# Altium schematic symbol library SparkFun-Capacitors.SCHLIB: 165 symbols (part 2 of 2)
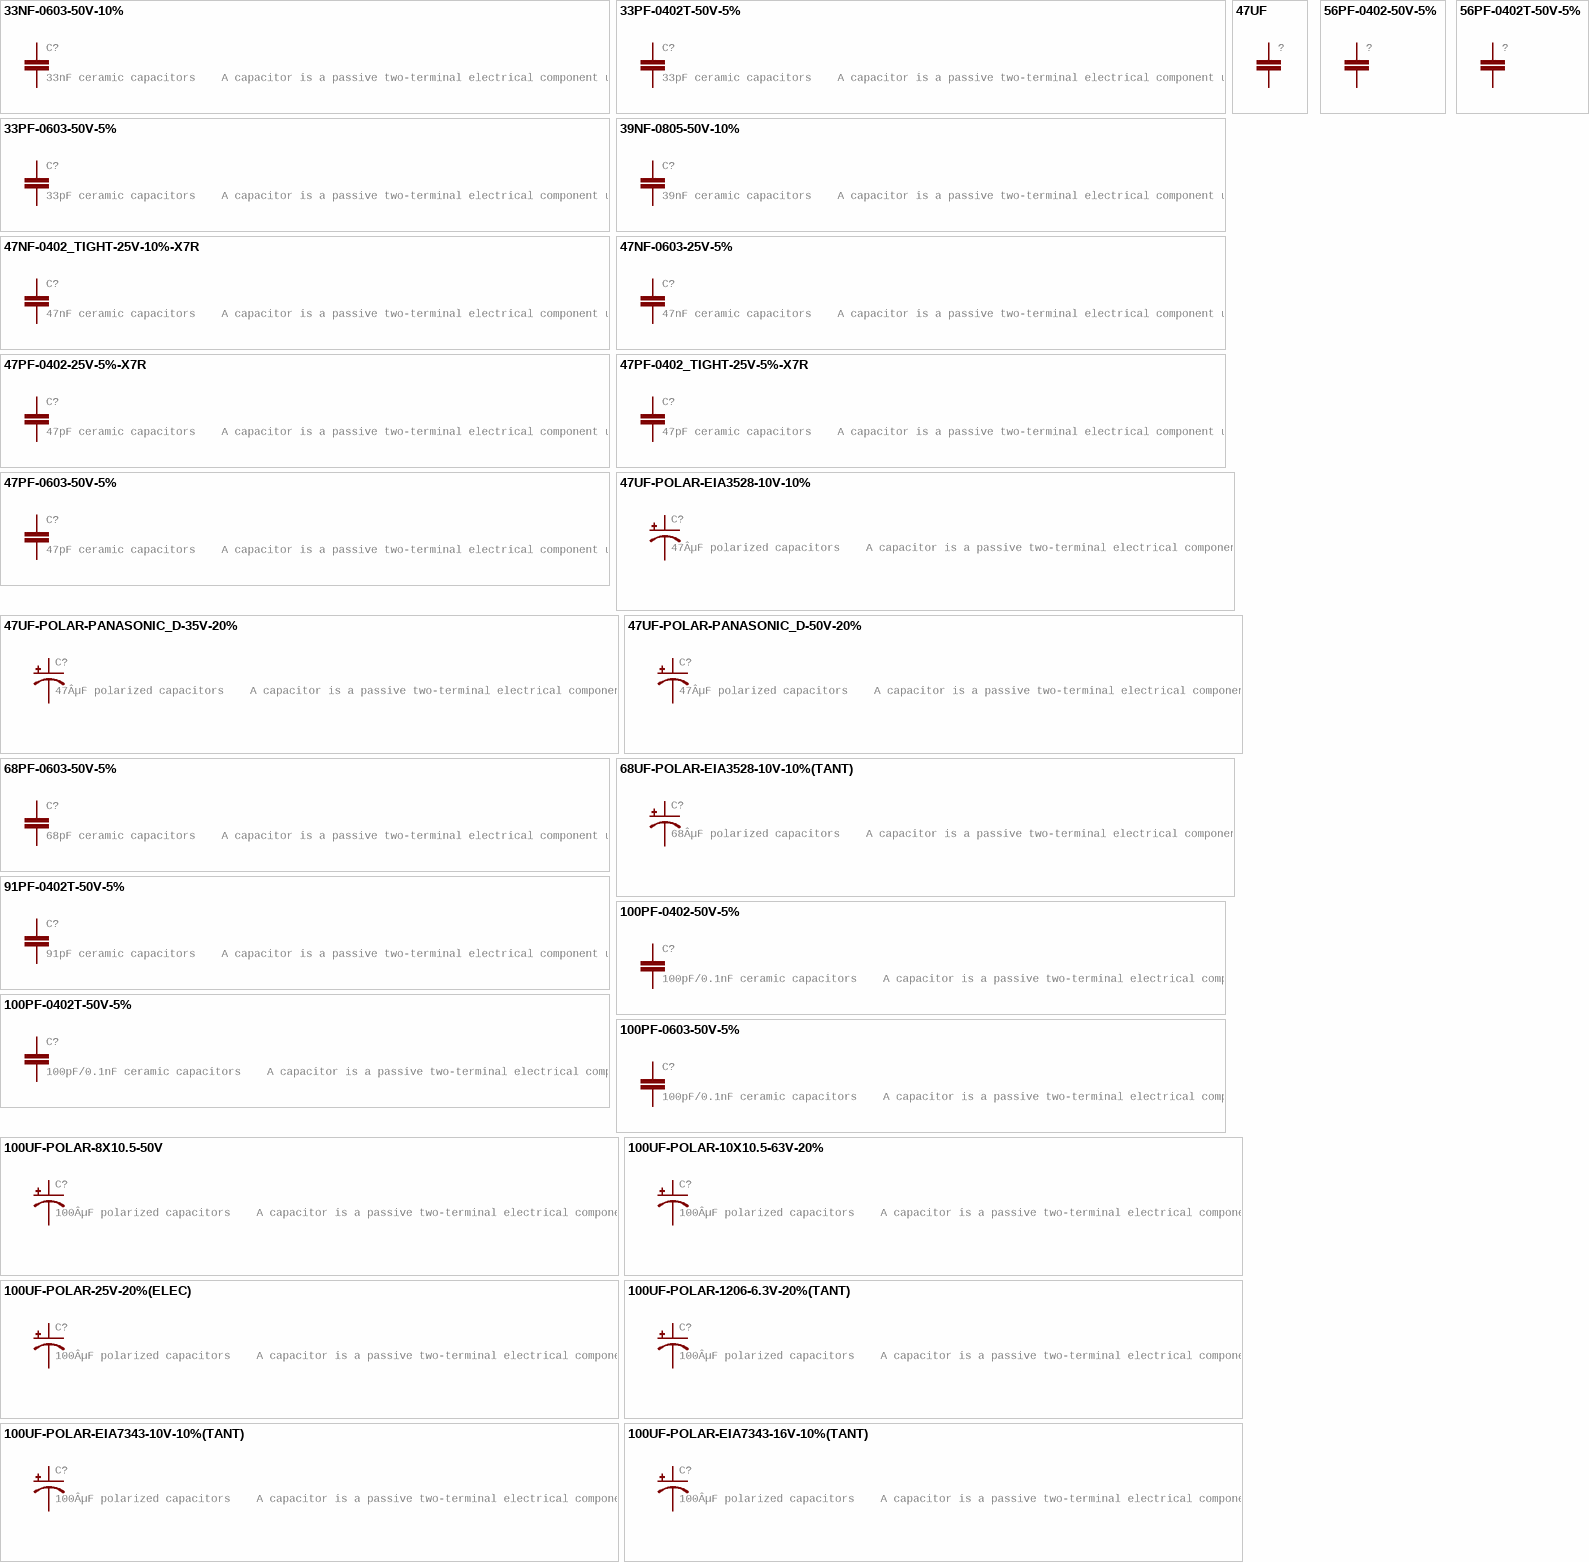
[diagram p6: symbols 33NF-0603-50V-10% to 100UF-POLAR-EIA7343-16V-10%(TANT)]

## 100UF-POLAR-10X10.5-63V-20%
designator C?, comment 100ÂµF polarized capacitors    A capacitor is a passive two-terminal electrical component used to store electrical energy temporarily in an electric field.
GateName_1: G$1; SymbolName_1: CAP_POL; DeviceName: -10X10.5-63V-20%; DeviceSetName: 100UF-POLAR; PROD_ID: CAP-08362; LibraryName: SparkFun-Capacitors; Package: NIC_10X10.5_CAP
footprint NIC_10X10.5_CAP
pins: +, -

## 100UF-POLAR-25V-20%(ELEC)
designator C?, comment 100ÂµF polarized capacitors    A capacitor is a passive two-terminal electrical component used to store electrical energy temporarily in an electric field.
GateName_1: G$1; SymbolName_1: CAP_POL; DeviceName: -25V-20%(ELEC); DeviceSetName: 100UF-POLAR; PROD_ID: CAP-12547; LibraryName: SparkFun-Capacitors; Package: PANASONIC_D
footprint PANASONIC_D
pins: +, -

## 100UF-POLAR-1206-6.3V-20%(TANT)
designator C?, comment 100ÂµF polarized capacitors    A capacitor is a passive two-terminal electrical component used to store electrical energy temporarily in an electric field.
GateName_1: G$1; SymbolName_1: CAP_POL; DeviceName: -1206-6.3V-20%(TANT); DeviceSetName: 100UF-POLAR; PROD_ID: CAP-14093; LibraryName: SparkFun-Capacitors; Package: 1206-POLAR
footprint 1206-POLAR
pins: 1 +, 2 -

## 100UF-POLAR-EIA7343-10V-10%(TANT)
designator C?, comment 100ÂµF polarized capacitors    A capacitor is a passive two-terminal electrical component used to store electrical energy temporarily in an electric field.
GateName_1: G$1; SymbolName_1: CAP_POL; DeviceName: -EIA7343-10V-10%(TANT); DeviceSetName: 100UF-POLAR; PROD_ID: CAP-07890; LibraryName: SparkFun-Capacitors; Package: EIA7343
footprint EIA7343
pins: A +, C -

## 100UF-POLAR-EIA7343-16V-10%(TANT)
designator C?, comment 100ÂµF polarized capacitors    A capacitor is a passive two-terminal electrical component used to store electrical energy temporarily in an electric field.
GateName_1: G$1; SymbolName_1: CAP_POL; DeviceName: -EIA7343-16V-10%(TANT); DeviceSetName: 100UF-POLAR; PROD_ID: CAP-08702; LibraryName: SparkFun-Capacitors; Package: EIA7343
footprint EIA7343
pins: A +, C -

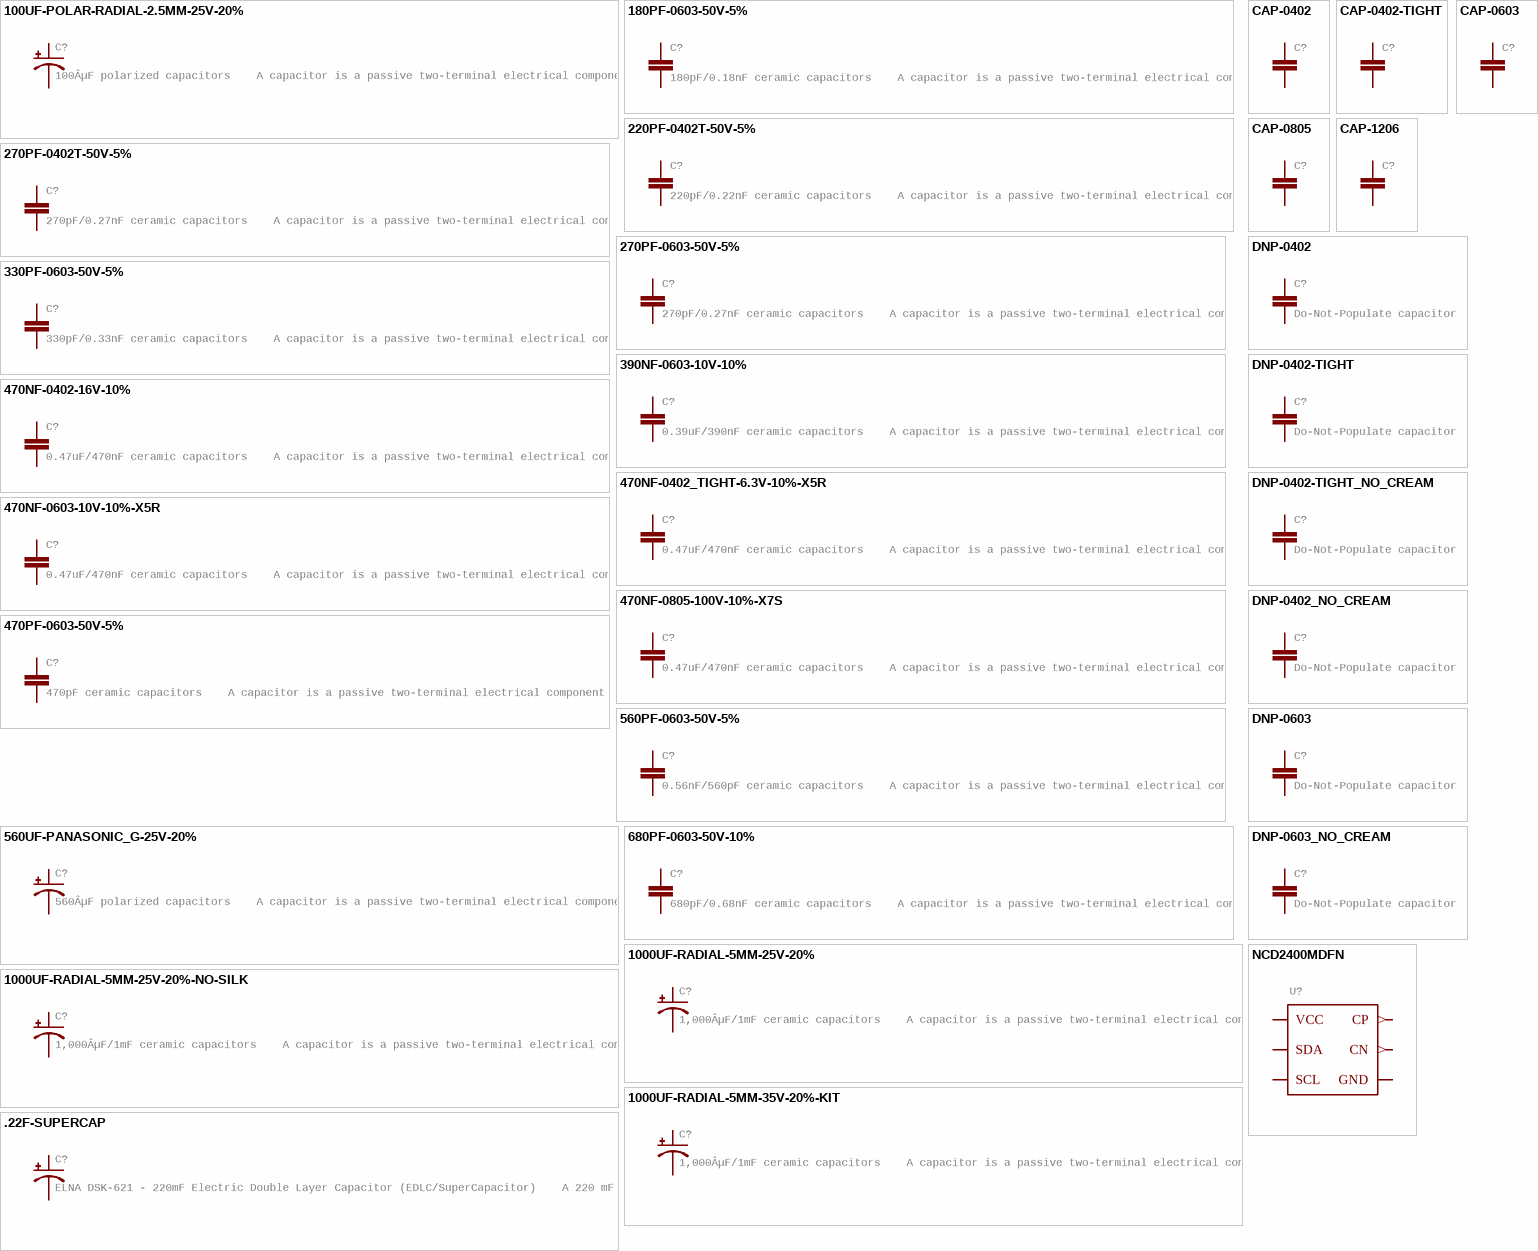
[diagram p5: symbols 100UF-POLAR-RADIAL-2.5MM-25V-20% to NCD2400MDFN]

## 100UF-POLAR-RADIAL-2.5MM-25V-20%
designator C?, comment 100ÂµF polarized capacitors    A capacitor is a passive two-terminal electrical component used to store electrical energy temporarily in an electric field.
GateName_1: G$1; SymbolName_1: CAP_POL; DeviceName: -RADIAL-2.5MM-25V-20%; DeviceSetName: 100UF-POLAR; PROD_ID: CAP-08439; LibraryName: SparkFun-Capacitors; Package: CPOL-RADIAL-2.5MM-6.5MM
footprint CPOL-RADIAL-2.5MM-6.5MM
pins: 1 +, 2 -

## 180PF-0603-50V-5%
designator C?, comment 180pF/0.18nF ceramic capacitors    A capacitor is a passive two-terminal electrical component used to store electrical energy temporarily in an electric field.
GateName_1: G$1; SymbolName_1: CAP; DeviceName: -0603-50V-5%; DeviceSetName: 180PF; PROD_ID: CAP-11661; LibraryName: SparkFun-Capacitors; Package: 0603
footprint 0603
pins: 1, 2

## 220PF-0402T-50V-5%
designator C?, comment 220pF/0.22nF ceramic capacitors    A capacitor is a passive two-terminal electrical component used to store electrical energy temporarily in an electric field.
GateName_1: G$1; SymbolName_1: CAP; DeviceName: -0402T-50V-5%; DeviceSetName: 220PF; PROD_ID: CAP-15725; LibraryName: SparkFun-Capacitors; Package: 0402-TIGHT
footprint 0402-TIGHT
pins: 1, 2

## 270PF-0402T-50V-5%
designator C?, comment 270pF/0.27nF ceramic capacitors    A capacitor is a passive two-terminal electrical component used to store electrical energy temporarily in an electric field.
GateName_1: G$1; SymbolName_1: CAP; DeviceName: -0402T-50V-5%; DeviceSetName: 270PF; PROD_ID: CAP-15129; LibraryName: SparkFun-Capacitors; Package: 0402-TIGHT
footprint 0402-TIGHT
pins: 1, 2

## 270PF-0603-50V-5%
designator C?, comment 270pF/0.27nF ceramic capacitors    A capacitor is a passive two-terminal electrical component used to store electrical energy temporarily in an electric field.
GateName_1: G$1; SymbolName_1: CAP; DeviceName: -0603-50V-5%; DeviceSetName: 270PF; PROD_ID: CAP-13339; LibraryName: SparkFun-Capacitors; Package: 0603
footprint 0603
pins: 1, 2

## 330PF-0603-50V-5%
designator C?, comment 330pF/0.33nF ceramic capacitors    A capacitor is a passive two-terminal electrical component used to store electrical energy temporarily in an electric field.
GateName_1: G$1; SymbolName_1: CAP; DeviceName: -0603-50V-5%; DeviceSetName: 330PF; PROD_ID: CAP-10108; LibraryName: SparkFun-Capacitors; Package: 0603
footprint 0603
pins: 1, 2

## 390NF-0603-10V-10%
designator C?, comment 0.39uF/390nF ceramic capacitors    A capacitor is a passive two-terminal electrical component used to store electrical energy temporarily in an electric field.
GateName_1: G$1; SymbolName_1: CAP; DeviceName: -0603-10V-10%; DeviceSetName: 390NF; PROD_ID: CAP-10986; LibraryName: SparkFun-Capacitors; Package: 0603
footprint 0603
pins: 1, 2

## 470NF-0402-16V-10%
designator C?, comment 0.47uF/470nF ceramic capacitors    A capacitor is a passive two-terminal electrical component used to store electrical energy temporarily in an electric field.
GateName_1: G$1; SymbolName_1: CAP; DeviceName: -0402-16V-10%; DeviceSetName: 470NF; PROD_ID: CAP-09041; LibraryName: SparkFun-Capacitors; Package: 0402
footprint 0402
pins: 1, 2

## 470NF-0402_TIGHT-6.3V-10%-X5R
designator C?, comment 0.47uF/470nF ceramic capacitors    A capacitor is a passive two-terminal electrical component used to store electrical energy temporarily in an electric field.
GateName_1: G$1; SymbolName_1: CAP; DeviceName: -0402_TIGHT-6.3V-10%-X5R; DeviceSetName: 470NF; PROD_ID: CAP-14242; LibraryName: SparkFun-Capacitors; Package: 0402-TIGHT
footprint 0402-TIGHT
pins: 1, 2

## 470NF-0603-10V-10%-X5R
designator C?, comment 0.47uF/470nF ceramic capacitors    A capacitor is a passive two-terminal electrical component used to store electrical energy temporarily in an electric field.
GateName_1: G$1; SymbolName_1: CAP; DeviceName: -0603-10V-10%-X5R; DeviceSetName: 470NF; PROD_ID: CAP-13216; LibraryName: SparkFun-Capacitors; Package: 0603
footprint 0603
pins: 1, 2

## 470NF-0805-100V-10%-X7S
designator C?, comment 0.47uF/470nF ceramic capacitors    A capacitor is a passive two-terminal electrical component used to store electrical energy temporarily in an electric field.
GateName_1: G$1; SymbolName_1: CAP; DeviceName: -0805-100V-10%-X7S; DeviceSetName: 470NF; PROD_ID: CAP-16570; LibraryName: SparkFun-Capacitors; Package: 0805
footprint 0805
pins: 1, 2

## 470PF-0603-50V-5%
designator C?, comment 470pF ceramic capacitors    A capacitor is a passive two-terminal electrical component used to store electrical energy temporarily in an electric field.
GateName_1: G$1; SymbolName_1: CAP; DeviceName: -0603-50V-5%; PROD_ID: CAP-07884; LibraryName: SparkFun-Capacitors; DeviceSetName: 470PF; Package: 0603
footprint 0603
pins: 1, 2

## 560PF-0603-50V-5%
designator C?, comment 0.56nF/560pF ceramic capacitors    A capacitor is a passive two-terminal electrical component used to store electrical energy temporarily in an electric field.
GateName_1: G$1; SymbolName_1: CAP; DeviceName: -0603-50V-5%; DeviceSetName: 560PF; PROD_ID: CAP-08749; LibraryName: SparkFun-Capacitors; Package: 0603
footprint 0603
pins: 1, 2

## 560UF-PANASONIC_G-25V-20%
designator C?, comment 560ÂµF polarized capacitors    A capacitor is a passive two-terminal electrical component used to store electrical energy temporarily in an electric field.
GateName_1: G$1; SymbolName_1: CAP_POL; DeviceName: -PANASONIC_G-25V-20%; DeviceSetName: 560UF; PROD_ID: CAP-09983; LibraryName: SparkFun-Capacitors; Package: PANASONIC_G
footprint PANASONIC_G
pins: +, -

## 680PF-0603-50V-10%
designator C?, comment 680pF/0.68nF ceramic capacitors    A capacitor is a passive two-terminal electrical component used to store electrical energy temporarily in an electric field.
GateName_1: G$1; SymbolName_1: CAP; DeviceName: -0603-50V-10%; DeviceSetName: 680PF; PROD_ID: CAP-09232; LibraryName: SparkFun-Capacitors; Package: 0603
footprint 0603
pins: 1, 2

## 1000UF-RADIAL-5MM-25V-20%
designator C?, comment 1,000ÂµF/1mF ceramic capacitors    A capacitor is a passive two-terminal electrical component used to store electrical energy temporarily in an electric field.CAP-08070
GateName_1: G$1; SymbolName_1: CAP_POL; DeviceName: -RADIAL-5MM-25V-20%; DeviceSetName: 1000UF; PROD_ID: CAP-09538; LibraryName: SparkFun-Capacitors; Package: CPOL-RADIAL-5MM-10MM
footprint CPOL-RADIAL-5MM-10MM
pins: +, -

## 1000UF-RADIAL-5MM-25V-20%-NO-SILK
designator C?, comment 1,000ÂµF/1mF ceramic capacitors    A capacitor is a passive two-terminal electrical component used to store electrical energy temporarily in an electric field.CAP-08070
GateName_1: G$1; SymbolName_1: CAP_POL; DeviceName: -RADIAL-5MM-25V-20%-NO-SILK; DeviceSetName: 1000UF; LibraryName: SparkFun-Capacitors; Package: CPOL-RADIAL-5MM-10MM-NS
footprint CPOL-RADIAL-5MM-10MM-NS
pins: +, -

## 1000UF-RADIAL-5MM-35V-20%-KIT
designator C?, comment 1,000ÂµF/1mF ceramic capacitors    A capacitor is a passive two-terminal electrical component used to store electrical energy temporarily in an electric field.CAP-08070
GateName_1: G$1; SymbolName_1: CAP_POL; DeviceName: -RADIAL-5MM-35V-20%-KIT; DeviceSetName: 1000UF; PROD_ID: CAP-09538; LibraryName: SparkFun-Capacitors; Package: CPOL-RADIAL-5MM-10MM-KIT
footprint CPOL-RADIAL-5MM-10MM-KIT
pins: +, -

## .22F-SUPERCAP
designator C?, comment ELNA DSK-621 - 220mF Electric Double Layer Capacitor (EDLC/SuperCapacitor)    A 220 mF SuperCapacitor. Used for backup power on devices with low standby current
GateName_1: G$1; SymbolName_1: CAP_POL; DeviceSetName: .22F-SUPERCAP; PROD_ID: CAP-13907; LibraryName: SparkFun-Capacitors; Package: DSK-RADIAL-4.8MM
footprint DSK-RADIAL-4.8MM
pins: +, -

## CAP-0402
designator C?
GateName_1: G$1; SymbolName_1: CAP; DeviceName: -0402; LibraryName: SparkFun-Capacitors; DeviceSetName: CAP; Package: 0402
footprint 0402
pins: 1, 2

## CAP-0402-TIGHT
designator C?
GateName_1: G$1; SymbolName_1: CAP; DeviceName: -0402-TIGHT; LibraryName: SparkFun-Capacitors; DeviceSetName: CAP; Package: 0402-TIGHT
footprint 0402-TIGHT
pins: 1, 2

## CAP-0603
designator C?
GateName_1: G$1; SymbolName_1: CAP; DeviceName: -0603; LibraryName: SparkFun-Capacitors; DeviceSetName: CAP; Package: 0603
footprint 0603
pins: 1, 2

## CAP-0805
designator C?
GateName_1: G$1; SymbolName_1: CAP; DeviceName: -0805; LibraryName: SparkFun-Capacitors; DeviceSetName: CAP; Package: 0805
footprint 0805
pins: 1, 2

## CAP-1206
designator C?
GateName_1: G$1; SymbolName_1: CAP; DeviceName: -1206; LibraryName: SparkFun-Capacitors; DeviceSetName: CAP; Package: 1206
footprint 1206
pins: 1, 2

## DNP-0402
designator C?, comment Do-Not-Populate capacitor
GateName_1: G$1; SymbolName_1: CAP; DeviceName: -0402; DeviceSetName: DNP; LibraryName: SparkFun-Capacitors; Package: 0402
footprint 0402
pins: 1, 2

## DNP-0402-TIGHT
designator C?, comment Do-Not-Populate capacitor
GateName_1: G$1; SymbolName_1: CAP; DeviceName: -0402-TIGHT; DeviceSetName: DNP; LibraryName: SparkFun-Capacitors; Package: 0402-TIGHT
footprint 0402-TIGHT
pins: 1, 2

## DNP-0402-TIGHT_NO_CREAM
designator C?, comment Do-Not-Populate capacitor
GateName_1: G$1; SymbolName_1: CAP; DeviceName: -0402-TIGHT_NO_CREAM; DeviceSetName: DNP; LibraryName: SparkFun-Capacitors; Package: 0402-TIGHT_NO_CREAM
footprint 0402-TIGHT_NO_CREAM
pins: 1, 2

## DNP-0402_NO_CREAM
designator C?, comment Do-Not-Populate capacitor
GateName_1: G$1; SymbolName_1: CAP; DeviceName: -0402_NO_CREAM; DeviceSetName: DNP; LibraryName: SparkFun-Capacitors; Package: 0402_NO_CREAM
footprint 0402_NO_CREAM
pins: 1, 2

## DNP-0603
designator C?, comment Do-Not-Populate capacitor
GateName_1: G$1; SymbolName_1: CAP; DeviceName: -0603; DeviceSetName: DNP; LibraryName: SparkFun-Capacitors; Package: 0603
footprint 0603
pins: 1, 2

## DNP-0603_NO_CREAM
designator C?, comment Do-Not-Populate capacitor
GateName_1: G$1; SymbolName_1: CAP; DeviceName: -0603_NO_CREAM; DeviceSetName: DNP; LibraryName: SparkFun-Capacitors; Package: 0603_NO_CREAM
footprint 0603_NO_CREAM
pins: 1, 2

## NCD2400MDFN
designator U?
GateName_1: U1; SymbolName_1: CAP_I2C_ADJ; DeviceName: DFN; DeviceSetName: NCD2400M; LibraryName: SparkFun-Capacitors; Package: DFN6
footprint DFN6
pins: 1 SDA (io), 2 CP (out), 3 CN (out), 4 VCC (power), 5 GND (power), 6 SCL (io)